# Altium schematic symbol library L1.SchLib: 83 symbols
Pins are listed as number, name and electrical type; pins without a type are passive.

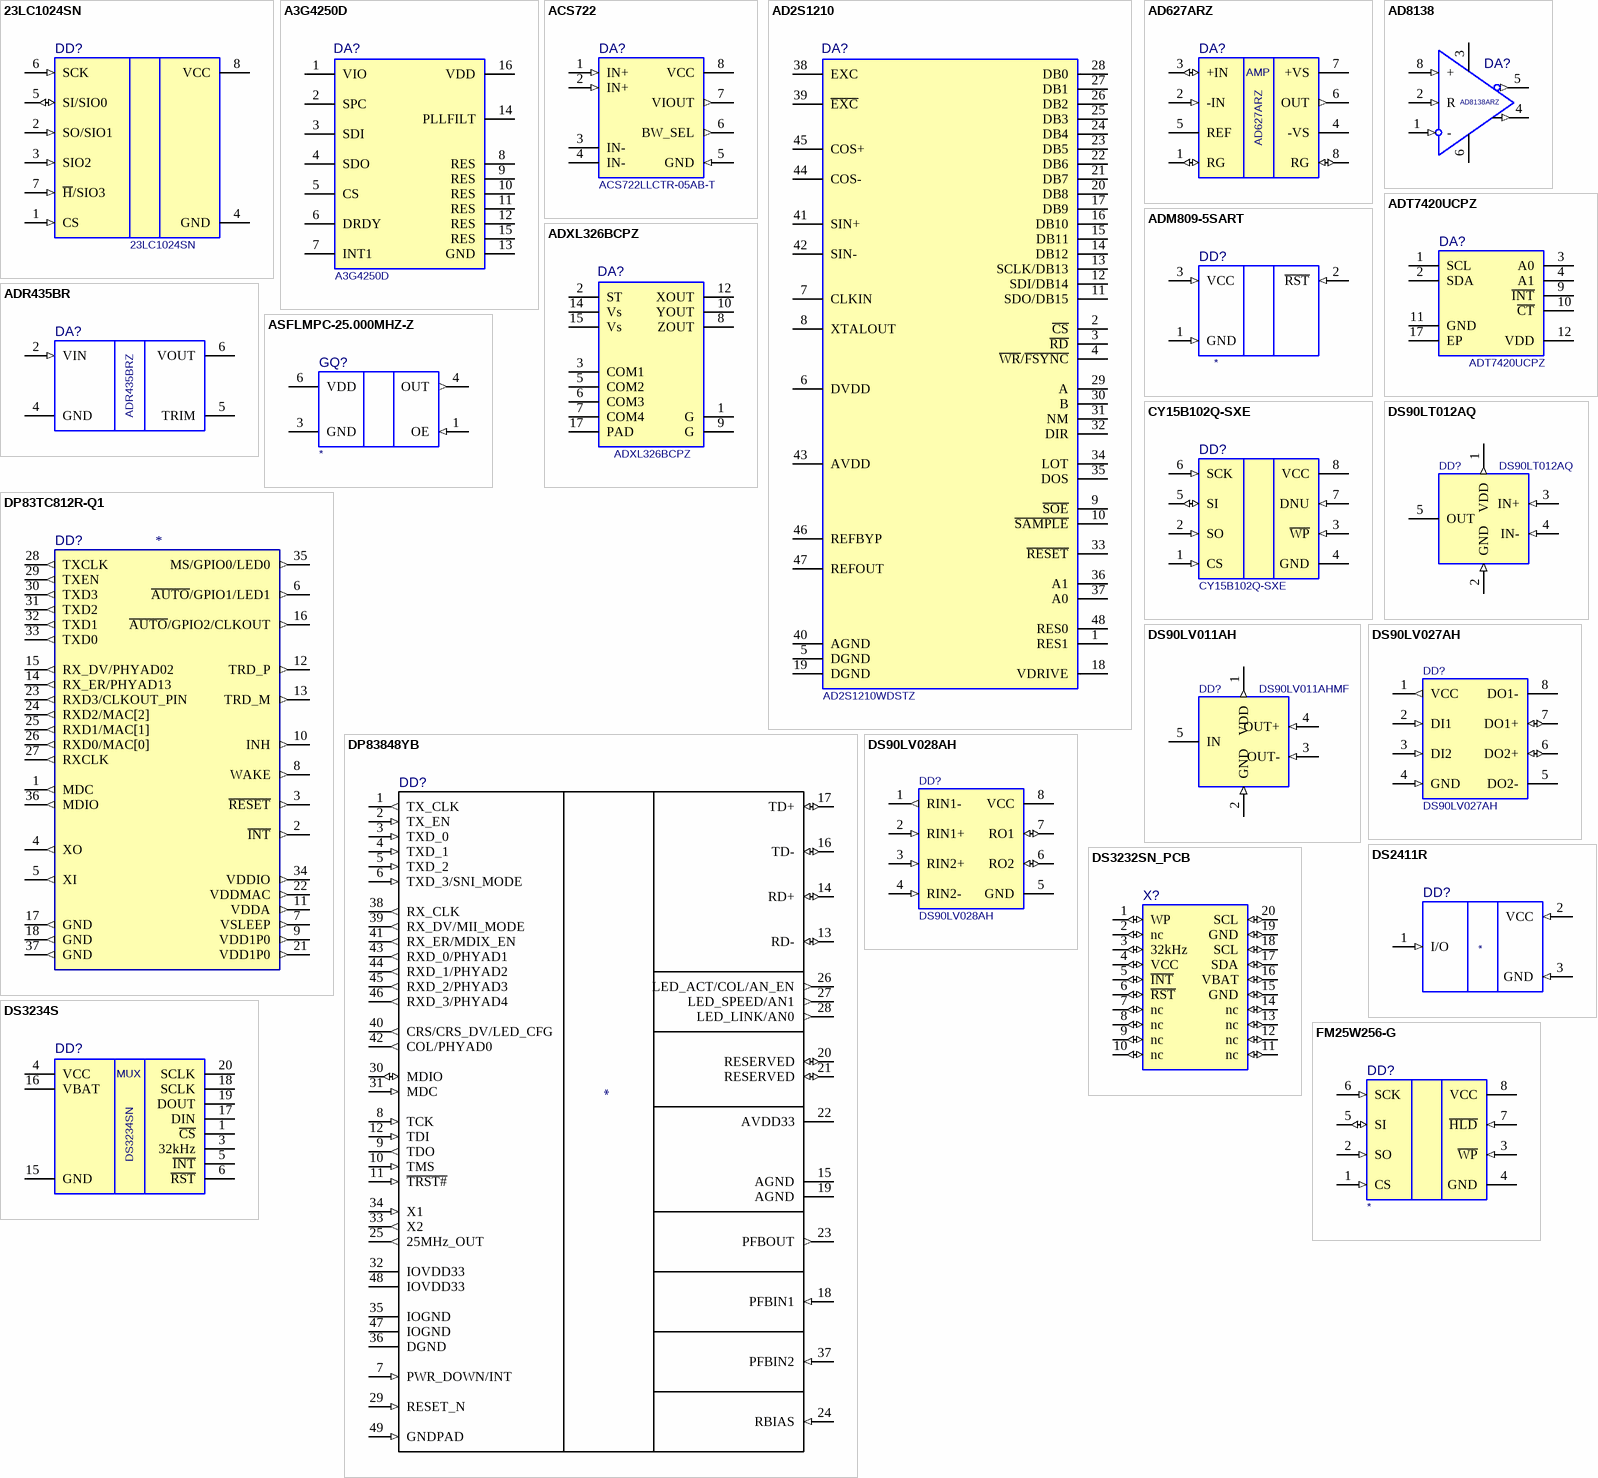
[diagram p0: symbols 23LC1024SN to FM25W256-G]

## 23LC1024SN
designator DD?
footprint SOIC8 JEDEC
signal-integrity model Model Name (Model Description)
pins: 1 CS (in), 2 SO/SIO1 (in), 3 SIO2 (in), 4 GND (power), 5 SI/SIO0 (io), 6 SCK (in), 7 ~{H}/SIO3 (in), 8 VCC (power)

## A3G4250D
designator DA?
3-axis digital output gyroscope; Part Field 1: *; Part Field 2: *
footprint LGA-16
pins: 1 VIO, 2 SPC, 3 SDI, 4 SDO, 5 CS, 6 DRDY, 7 INT1, 8 RES, 9 RES, 10 RES, 11 RES, 12 RES, 13 GND, 14 PLLFILT, 15 RES, 16 VDD

## ACS722
designator DA?, comment ACS722LLCTR-05AB-T
footprint SOIC8 JEDEC
pins: 1 IN+ (in), 2 IN+ (in), 3 IN- (power), 4 IN- (power), 5 GND (in), 6 BW_SEL (out), 7 VIOUT (out), 8 VCC (power)

## AD2S1210
designator DA?, comment AD2S1210WDSTZ
Variable Resolution, 10-Bit to 16-Bit resolver-to-digital  Converter with Reference Oscillator; Part Field 1: *; Part Field 2: *
footprint LQFP48_VBH48A
pins: 1 RES1, 2 ~{CS}, 3 ~{RD}, 4 ~{WR}/~{FSYNC}, 5 DGND, 6 DVDD, 7 CLKIN, 8 XTALOUT, 9 ~{SOE}, 10 ~{SAMPLE}, 11 SDO/DB15, 12 SDI/DB14, 13 SCLK/DB13, 14 DB12, 15 DB11, 16 DB10, 17 DB9, 18 VDRIVE, 19 DGND, 20 DB8, 21 DB7, 22 DB6, 23 DB5, 24 DB4, 25 DB3, 26 DB2, 27 DB1, 28 DB0, 29 A, 30 B, 31 NM, 32 DIR, 33 ~{RESET}, 34 LOT, 35 DOS, 36 A1, 37 A0, 38 EXC, 39 ~{EXC}, 40 AGND, 41 SIN+, 42 SIN-, 43 AVDD, 44 COS-, 45 COS+, 46 REFBYP, 47 REFOUT, 48 RES0

## AD627ARZ
designator DA?
footprint SOIC8 JEDEC
pins: 1 RG (io), 2 -IN (in), 3 +IN (io), 4 -VS, 5 REF (power), 6 OUT (out), 7 +VS (power), 8 RG (io)
text: AMP

## AD8138
designator DA?, comment AD8138ARZ
footprint SOIC8 JEDEC
pins: 1  - (in), 2 R (in), 3 V+ (power), 4 +OUT (out), 5 -OUT  (out), 6 V- (power), 8 + (in)

## ADM809-5SART
designator DD?
footprint SOT-23
pins: 1 GND (in), 2 ~{RST} (in), 3 VCC (in)

## ADR435BR
designator DA?, comment ADR435BRZ
footprint SOIC8 JEDEC
pins: 2 VIN (in), 4 GND (power), 5 TRIM (power), 6 VOUT (power)

## ADT7420UCPZ
designator DA?
±0.25°C Accurate, 16-Bit Digital I2C Temperature Sensor
footprint LFCSP16 (CP-16-17)
pins: 1 SCL (power), 2 SDA (power), 3 A0 (power), 4 A1 (power), 9 ~{INT} (power), 10 ~{CT} (power), 11 GND (power), 12 VDD (power), 17 EP (power)

## ADXL326BCPZ
designator DA?
Small, Low Power, 3-Axis ±16 g Accelerometer; Part Field 1: *; Part Field 2: *
footprint LFCSP16 (CP-16-5a)
pins: 1 G, 2 ST, 3 COM1, 5 COM2, 6 COM3, 7 COM4, 8 ZOUT, 9 G, 10 YOUT, 12 XOUT, 14 Vs, 15 Vs, 17 PAD

## ASFLMPC-25.000MHZ-Z
designator GQ?
footprint ASFLMP
pins: 1 OE (in), 3 GND (power), 4 OUT (out), 6 VDD (power)

## CY15B102Q-SXE
designator DD?
2-Mbit (256 K × 8) Serial (SPI) Automotive F-RAM
footprint SOIC8 EIAJ
signal-integrity model Model Name (Model Description)
pins: 1 CS (in), 2 SO (in), 3 ~{WP} (in), 4 GND (power), 5 SI (io), 6 SCK (in), 7 DNU (in), 8 VCC (power)

## DP83TC812R-Q1
designator DD?
TC-10 Compliant 100BASE-T1 Automotive Ethernet PHY
footprint VQFN-36
pins: 1 MDC (out), 2 ~{INT} (out), 3 ~{RESET} (out), 4 XO (out), 5 XI (out), 6 ~{AUTO}/GPIO1/LED1 (out), 7 VSLEEP (out), 8 WAKE (out), 9 VDD1P0 (out), 10 INH (out), 11 VDDA (out), 12 TRD_P (out), 13 TRD_M (out), 14 RX_ER/PHYAD13 (out), 15 RX_DV/PHYAD02 (out), 16 ~{AUTO}/GPIO2/CLKOUT (out), 17 GND (out), 18 GND (out), 21 VDD1P0 (out), 22 VDDMAC (out), 23 RXD3/CLKOUT_PIN (out), 24 RXD2/MAC[2] (out), 25 RXD1/MAC[1] (out), 26 RXD0/MAC[0] (out), 27 RXCLK (out), 28 TXCLK (out), 29 TXEN (out), 30 TXD3 (out), 31 TXD2 (out), 32 TXD1 (out), 33 TXD0 (out), 34 VDDIO (out), 35 MS/GPIO0/LED0 (out), 36 MDIO (out), 37 GND (out)

## DP83848YB
designator DD?
footprint LQFP48_VXH48A
signal-integrity model DP83848YB (DP83848YB IBIS)
pins: 1 TX_CLK (out), 2 TX_EN (in), 3 TXD_0 (in), 4 TXD_1 (in), 5 TXD_2 (in), 6 TXD_3/SNI_MODE (in), 7 PWR_DOWN/INT (in), 8 TCK (in), 9 TDO (out), 10 TMS (in), 11 ~{TRST#} (in), 12 TDI (in), 13 RD- (io), 14 RD+ (io), 15 AGND (power), 16 TD- (io), 17 TD+ (io), 18 PFBIN1 (in), 19 AGND (power), 20 RESERVED (io), 21 RESERVED (io), 22 AVDD33 (power), 23 PFBOUT (out), 24 RBIAS (in), 25 25MHz_OUT (out), 26 LED_ACT/COL/AN_EN (out), 27 LED_SPEED/AN1 (out), 28 LED_LINK/AN0 (out), 29 RESET_N (in), 30 MDIO (io), 31 MDC (in), 32 IOVDD33 (power), 33 X2 (out), 34 X1 (in), 35 IOGND (power), 36 DGND (power), 37 PFBIN2 (in), 38 RX_CLK (out), 39 RX_DV/MII_MODE (out), 40 CRS/CRS_DV/LED_CFG (out), 41 RX_ER/MDIX_EN (out), 42 COL/PHYAD0 (out), 43 RXD_0/PHYAD1 (out), 44 RXD_1/PHYAD2 (out), 45 RXD_2/PHYAD3 (out), 46 RXD_3/PHYAD4 (out), 47 IOGND (power), 48 IOVDD33 (power), 49 GNDPAD (in)

## DS90LT012AQ
designator DD?
DS90LT012AQ Automotive LVDS Differential Line Receiver; Value: *
footprint SOT23-5
pins: 1 VDD (out), 2 GND (in), 3 IN+ (in), 4 IN- (in), 5 OUT (power)

## DS90LV011AH
designator DD?, comment DS90LV011AHMF
DS90LV011AH High Temperature 3-V LVDS Differential Driver; Value: *
footprint SOT23-5
pins: 1 VDD (out), 2 GND (in), 3 OUT- (in), 4 OUT+ (in), 5 IN (power)

## DS90LV027AH
designator DD?
DS90LV027AH high temperature LVDS dual differential driver; Value: *
footprint SOIC8 JEDEC
pins: 1 VCC (out), 2 DI1 (in), 3 DI2 (in), 4 GND (in), 5 DO2- (power), 6 DO2+ (io), 7 DO1+ (io), 8 DO1- (power)

## DS90LV028AH
designator DD?
DS90LV028AH high temperature3-V LVDS dual differentialline receiver; Value: *
footprint SOIC8 JEDEC
pins: 1 RIN1- (out), 2 RIN1+ (in), 3 RIN2+ (in), 4 RIN2- (in), 5 GND (power), 6 RO2 (io), 7 RO1 (io), 8 VCC (power)

## DS2411R
designator DD?
Silicon Serial Number with VCC Input
footprint SOT-23
pins: 1 I/O (in), 2 VCC (in), 3 GND (in)

## DS3232SN_PCB
designator X?
footprint DS3232SN_PCB
pins: 1 WP (io), 2 nc (io), 3 32kHz (io), 4 VCC (io), 5 ~{INT} (io), 6 ~{RST} (io), 7 nc (io), 8 nc (io), 9 nc (io), 10 nc (io), 11 nc (io), 12 nc (io), 13 nc (io), 14 nc (io), 15 GND (io), 16 VBAT (io), 17 SDA (io), 18 SCL (io), 19 GND (io), 20 SCL (io)

## DS3234S
designator DD?, comment DS3234SN
Extremely Accurate SPI Bus RTC with Integrated Crystal and SRAM; Part Field 1: *; Part Field 2: *
footprint SOIC-20 (JEDEC MS-013-AC)
pins: 1 ~{CS}, 3 32kHz, 4 VCC, 5 ~{INT}, 6 ~{RST}, 15 GND, 16 VBAT, 17 DIN, 18 SCLK, 19 DOUT, 20 SCLK
text: MUX

## FM25W256-G
designator DD?
256-Kbit (32K × 8) Serial (SPI) F-RAM
footprint SOIC8 JEDEC
signal-integrity model Model Name (Model Description)
pins: 1 CS (in), 2 SO (in), 3 ~{WP} (in), 4 GND (power), 5 SI (io), 6 SCK (in), 7 ~{HLD} (in), 8 VCC (power)

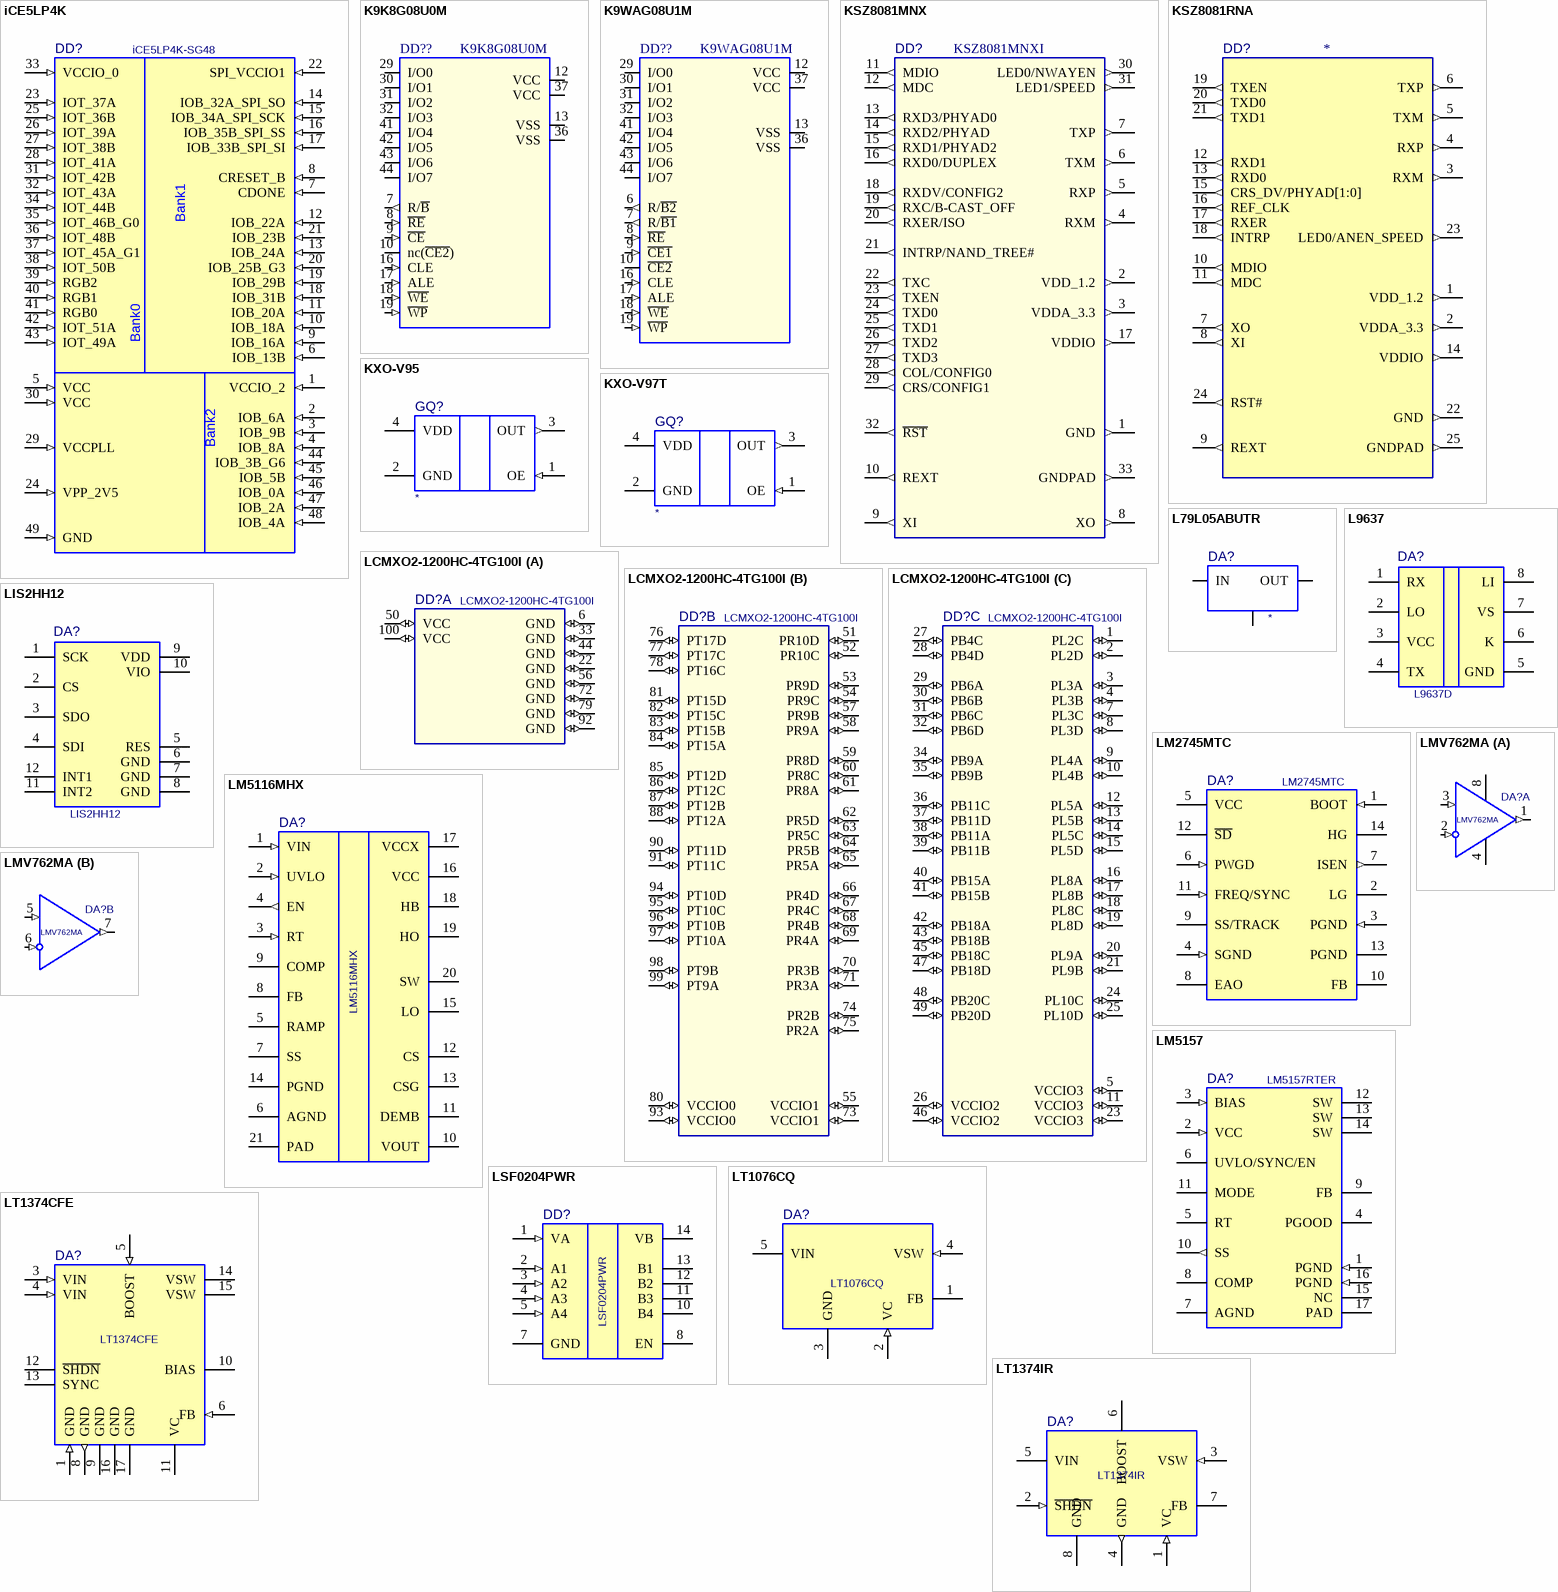
[diagram p1: symbols iCE5LP4K to LT1374IR]

## iCE5LP4K
designator DD?, comment iCE5LP4K-SG48
FPGA
footprint QFN48_5.8 (QFN, 64-Leads, Body 9x9mm, Pitch 0.5mm, Thermal Pad 7.3x7.3mm, IPC Low Density)
pins: 1 VCCIO_2 (in), 2 IOB_6A (in), 3 IOB_9B (in), 4 IOB_8A (in), 5 VCC (in), 6 IOB_13B (in), 7 CDONE (in), 8 CRESET_B (in), 9 IOB_16A (in), 10 IOB_18A (in), 11 IOB_20A (in), 12 IOB_22A (in), 13 IOB_24A (in), 14 IOB_32A_SPI_SO (in), 15 IOB_34A_SPI_SCK (in), 16 IOB_35B_SPI_SS (in), 17 IOB_33B_SPI_SI (in), 18 IOB_31B (in), 19 IOB_29B (in), 20 IOB_25B_G3 (in), 21 IOB_23B (in), 22 SPI_VCCIO1 (in), 23 IOT_37A (in), 24 VPP_2V5 (in), 25 IOT_36B (in), 26 IOT_39A (in), 27 IOT_38B (in), 28 IOT_41A (in), 29 VCCPLL (in), 30 VCC (in), 31 IOT_42B (in), 32 IOT_43A (in), 33 VCCIO_0 (in), 34 IOT_44B (in), 35 IOT_46B_G0 (in), 36 IOT_48B (in), 37 IOT_45A_G1 (in), 38 IOT_50B (in), 39 RGB2 (in), 40 RGB1 (in), 41 RGB0 (in), 42 IOT_51A (in), 43 IOT_49A (in), 44 IOB_3B_G6 (in), 45 IOB_5B (in), 46 IOB_0A (in), 47 IOB_2A (in), 48 IOB_4A (in), 49 GND (in)
text: Bank1; Bank0; Bank2

## K9K8G08U0M
designator DD??
1G x 8 Bit / 2G x 8 Bit NAND Flash Memory; Part Field 1: *; Part Field 2: *
footprint TSSO12X20-G48/P.5
pins: 1 nc (power) hidden to GND, 2 nc (power) hidden to GND, 3 nc (power) hidden to GND, 4 nc (power) hidden to GND, 5 nc (power) hidden to GND, 6 nc (power) hidden to GND, 7 R/~{B} (out), 8 ~{RE} (in), 9 ~{CE} (in), 10 nc(~{CE2}), 11 nc (power) hidden to GND, 12 VCC (power), 13 VSS (power), 14 nc (power) hidden to GND, 15 nc (power) hidden to GND, 16 CLE (in), 17 ALE (in), 18 ~{WE} (in), 19 ~{WP} (in), 20 nc (power) hidden to GND, 21 nc (power) hidden to GND, 22 nc (power) hidden to GND, 23 nc (power) hidden to GND, 24 nc (power) hidden to GND, 25 nc (power) hidden to GND, 26 nc (power) hidden to GND, 27 nc (power) hidden to GND, 28 nc (power) hidden to GND, 29 I/O0 (io), 30 I/O1 (io), 31 I/O2 (io), 32 I/O3 (io), 33 nc (power) hidden to GND, 34 nc (power) hidden to GND, 35 nc (power) hidden to GND, 36 VSS (power), 37 VCC (power), 38 nc (power) hidden to GND, 39 nc (power) hidden to GND, 40 nc (power) hidden to GND, 41 I/O4 (io), 42 I/O5 (io), 43 I/O6 (io), 44 I/O7 (io), 45 nc (power) hidden to GND, 46 nc (power) hidden to GND, 47 nc (power) hidden to GND, 48 nc (power) hidden to GND

## K9WAG08U1M
designator DD??
1G x 8 Bit / 2G x 8 Bit NAND Flash Memory; Part Field 1: *; Part Field 2: *
footprint TSSO12X20-G48/P.5
pins: 1 nc (power) hidden to GND, 2 nc (power) hidden to GND, 3 nc (power) hidden to GND, 4 nc (power) hidden to GND, 5 nc (power) hidden to GND, 6 R/~{B2} (out), 7 R/~{B1} (out), 8 ~{RE} (in), 9 ~{CE1} (in), 10 ~{CE2}, 11 nc (power) hidden to GND, 12 VCC (power), 13 VSS (power), 14 nc (power) hidden to GND, 15 nc (power) hidden to GND, 16 CLE (in), 17 ALE (in), 18 ~{WE} (in), 19 ~{WP} (in), 20 nc (power) hidden to GND, 21 nc (power) hidden to GND, 22 nc (power) hidden to GND, 23 nc (power) hidden to GND, 24 nc (power) hidden to GND, 25 nc (power) hidden to GND, 26 nc (power) hidden to GND, 27 nc (power) hidden to GND, 28 nc (power) hidden to GND, 29 I/O0 (io), 30 I/O1 (io), 31 I/O2 (io), 32 I/O3 (io), 33 nc (power) hidden to GND, 34 nc (power) hidden to GND, 35 nc (power) hidden to GND, 36 VSS (power), 37 VCC (power), 38 nc (power) hidden to GND, 39 nc (power) hidden to GND, 40 nc (power) hidden to GND, 41 I/O4 (io), 42 I/O5 (io), 43 I/O6 (io), 44 I/O7 (io), 45 nc (power) hidden to GND, 46 nc (power) hidden to GND, 47 nc (power) hidden to GND, 48 nc (power) hidden to GND

## KSZ8081MNX
designator DD?, comment KSZ8081MNXI
10BASE-T/100BASE-TX Physical Layer Transceiver
footprint HVQFN33
pins: 1 GND (out), 2 VDD_1.2 (out), 3 VDDA_3.3 (out), 4 RXM (out), 5 RXP (out), 6 TXM (out), 7 TXP (out), 8 XO (out), 9 XI (out), 10 REXT (out), 11 MDIO (out), 12 MDC (out), 13 RXD3/PHYAD0 (out), 14 RXD2/PHYAD (out), 15 RXD1/PHYAD2 (out), 16 RXD0/DUPLEX (out), 17 VDDIO (out), 18 RXDV/CONFIG2 (out), 19 RXC/B-CAST_OFF (out), 20 RXER/ISO (out), 21 INTRP/NAND_TREE# (out), 22 TXC (out), 23 TXEN (out), 24 TXD0 (out), 25 TXD1 (out), 26 TXD2 (out), 27 TXD3 (out), 28 COL/CONFIG0 (out), 29 CRS/CONFIG1 (out), 30 LED0/NWAYEN (out), 31 LED1/SPEED (out), 32 ~{RST} (out), 33 GNDPAD (out)

## KSZ8081RNA
designator DD?
10BASE-T/100BASE-TX PHY with RMII Support
footprint QFN-24
pins: 1 VDD_1.2 (out), 2 VDDA_3.3 (out), 3 RXM (out), 4 RXP (out), 5 TXM (out), 6 TXP (out), 7 XO (out), 8 XI (out), 9 REXT (out), 10 MDIO (out), 11 MDC (out), 12 RXD1 (out), 13 RXD0 (out), 14 VDDIO (out), 15 CRS_DV/PHYAD[1:0] (out), 16 REF_CLK (out), 17 RXER (out), 18 INTRP (out), 19 TXEN (out), 20 TXD0 (out), 21 TXD1 (out), 22 GND (out), 23 LED0/ANEN_SPEED (out), 24 RST# (out), 25 GNDPAD (out)

## KXO-V95
designator GQ?
footprint KXO_2.5_2
pins: 1 OE (in), 2 GND (power), 3 OUT (out), 4 VDD (power)

## KXO-V97T
designator GQ?
footprint KXO-97
pins: 1 OE (in), 2 GND (power), 3 OUT (out), 4 VDD (power)

## L79L05ABUTR
designator DA?
footprint SOT-89
pins: 1 G, 2 IN, 3 OUT

## L9637
designator DA?, comment L9637D
Monolithic bus driver with ISO 9141 interface; Part Field 1: *; Part Field 2: *
footprint SOIC8 JEDEC
pins: 1 RX, 2 LO, 3 VCC, 4 TX, 5 GND, 6 K, 7 VS, 8 LI

## LCMXO2-1200HC-4TG100I
designator DD?
footprint LQFP100_MS-026
part A pins: 6 GND (io), 22 GND (io), 33 GND (io), 44 GND (io), 50 VCC (io), 56 GND (io), 72 GND (io), 79 GND (io), 92 GND (io), 100 VCC (io)
part B pins: 51 PR10D (io), 52 PR10C (io), 53 PR9D (io), 54 PR9C (io), 55 VCCIO1 (io), 57 PR9B (io), 58 PR9A (io), 59 PR8D (io), 60 PR8C (io), 61 PR8A (io), 62 PR5D (io), 63 PR5C (io), 64 PR5B (io), 65 PR5A (io), 66 PR4D (io), 67 PR4C (io), 68 PR4B (io), 69 PR4A (io), 70 PR3B (io), 71 PR3A (io), 73 VCCIO1 (io), 74 PR2B (io), 75 PR2A (io), 76 PT17D (io), 77 PT17C (io), 78 PT16C (io), 80 VCCIO0 (io), 81 PT15D (io), 82 PT15C (io), 83 PT15B (io), 84 PT15A (io), 85 PT12D (io), 86 PT12C (io), 87 PT12B (io), 88 PT12A (io), 90 PT11D (io), 91 PT11C (io), 93 VCCIO0 (io), 94 PT10D (io), 95 PT10C (io), 96 PT10B (io), 97 PT10A (io), 98 PT9B (io), 99 PT9A (io)
part C pins: 1 PL2C (io), 2 PL2D (io), 3 PL3A (io), 4 PL3B (io), 5 VCCIO3 (io), 7 PL3C (io), 8 PL3D (io), 9 PL4A (io), 10 PL4B (io), 11 VCCIO3 (io), 12 PL5A (io), 13 PL5B (io), 14 PL5C (io), 15 PL5D (io), 16 PL8A (io), 17 PL8B (io), 18 PL8C (io), 19 PL8D (io), 20 PL9A (io), 21 PL9B (io), 23 VCCIO3 (io), 24 PL10C (io), 25 PL10D (io), 26 VCCIO2 (io), 27 PB4C (io), 28 PB4D (io), 29 PB6A (io), 30 PB6B (io), 31 PB6C (io), 32 PB6D (io), 34 PB9A (io), 35 PB9B (io), 36 PB11C (io), 37 PB11D (io), 38 PB11A (io), 39 PB11B (io), 40 PB15A (io), 41 PB15B (io), 42 PB18A (io), 43 PB18B (io), 45 PB18C (io), 46 VCCIO2 (io), 47 PB18D (io), 48 PB20C (io), 49 PB20D (io)

## LIS2HH12
designator DA?
ultra-low-power high-performance 3-axis "pico" accelerometer; Part Field 1: *; Part Field 2: *
footprint LGA-12
pins: 1 SCK, 2 CS, 3 SDO, 4 SDI, 5 RES, 6 GND, 7 GND, 8 GND, 9 VDD, 10 VIO, 11 INT2, 12 INT1

## LM2745MTC
designator DA?
Synchronous Buck Controller with Pre-Bias Startup, and Optional Clock Synchronization
footprint TSSOP14 (JEDEC MO-153)
pins: 1 BOOT (in), 2 LG (power), 3 PGND (in), 4 SGND (in), 5 VCC (power), 6 PWGD (in), 7 ISEN (out), 8 EAO (power), 9 SS/TRACK (power), 10 FB (power), 11 FREQ/SYNC (in), 12 ~{SD} (power), 13 PGND (power), 14 HG (power)

## LM5116MHX
designator DA?
6-100V Wide Vin, Current Mode Synchronous Buck Controller
footprint HTSSOP20 (MXA20A)
pins: 1 VIN (in), 2 UVLO (in), 3 RT (in), 4 EN (out), 5 RAMP (power), 6 AGND (power), 7 SS (power), 8 FB (power), 9 COMP (power), 10 VOUT (power), 11 DEMB (power), 12 CS (power), 13 CSG (power), 14 PGND (power), 15 LO (power), 16 VCC (power), 17 VCCX (power), 18 HB (power), 19 HO (power), 20 SW (power), 21 PAD (power)

## LM5157
designator DA?, comment LM5157RTER
2.2-MHz Wide VIN 50-V Boost/SEPIC/Flyback Converter with Dual Random Spread Spectrum, Thermal shutdown 175°C
footprint WQFN-16
pins: 1 PGND (in), 2 VCC (in), 3 BIAS (in), 4 PGOOD (power), 5 RT (power), 6 UVLO/SYNC/EN (power), 7 AGND (power), 8 COMP (power), 9 FB (power), 10 SS (out), 11 MODE (power), 12 SW (power), 13 SW (power), 14 SW (power), 15 NC (power), 16 PGND (in), 17 PAD (power)

## LMV762MA
designator DA?
footprint SOIC8 JEDEC
part A pins: 1 OUT (out), 2 - (in), 3 + (in), 4 V- (power), 8 V+ (power)
part B pins: 5 + (in), 6 - (in), 7 OUT (out)

## LSF0204PWR
designator DD?
4-bit bidirectional multi-voltage level translator; open-drain; push-pull
footprint TSSOP14 (JEDEC MO-153)
pins: 1 VA (in), 2 A1 (in), 3 A2 (in), 4 A3 (in), 5 A4 (in), 7 GND (power), 8 EN (power), 10 B4 (power), 11 B3 (power), 12 B2 (power), 13 B1 (power), 14 VB (power)

## LT1076CQ
designator DA?
2A, 8-45-V Input, 100kHz Step-Down Switching Regulator
footprint D2PAK-5
pins: 1 FB (power), 2 VC (in), 3 GND (power), 4 VSW (in), 5 VIN (power)

## LT1374CFE
designator DA?
4.5-A, 25-V Input, 500kHz Step-Down Switching Regulator
footprint TSSOP16 POWERPAD
pins: 1 GND (in), 3 VIN (in), 4 VIN (in), 5 BOOST (in), 6 FB (in), 8 GND (out), 9 GND (power), 10 BIAS (power), 11 VC (power), 12 ~{SHDN} (power), 13 SYNC (power), 14 VSW (power), 15 VSW (power), 16 GND (power), 17 GND (power)

## LT1374IR
designator DA?
4.5-A, 25-V Input, 500kHz Step-Down Switching Regulator
footprint D2PAK-7
pins: 1 VC (in), 2 ~{SHDN} (in), 3 VSW (in), 4 GND (out), 5 VIN (power), 6 BOOST (power), 7 FB (power), 8 GND (power)

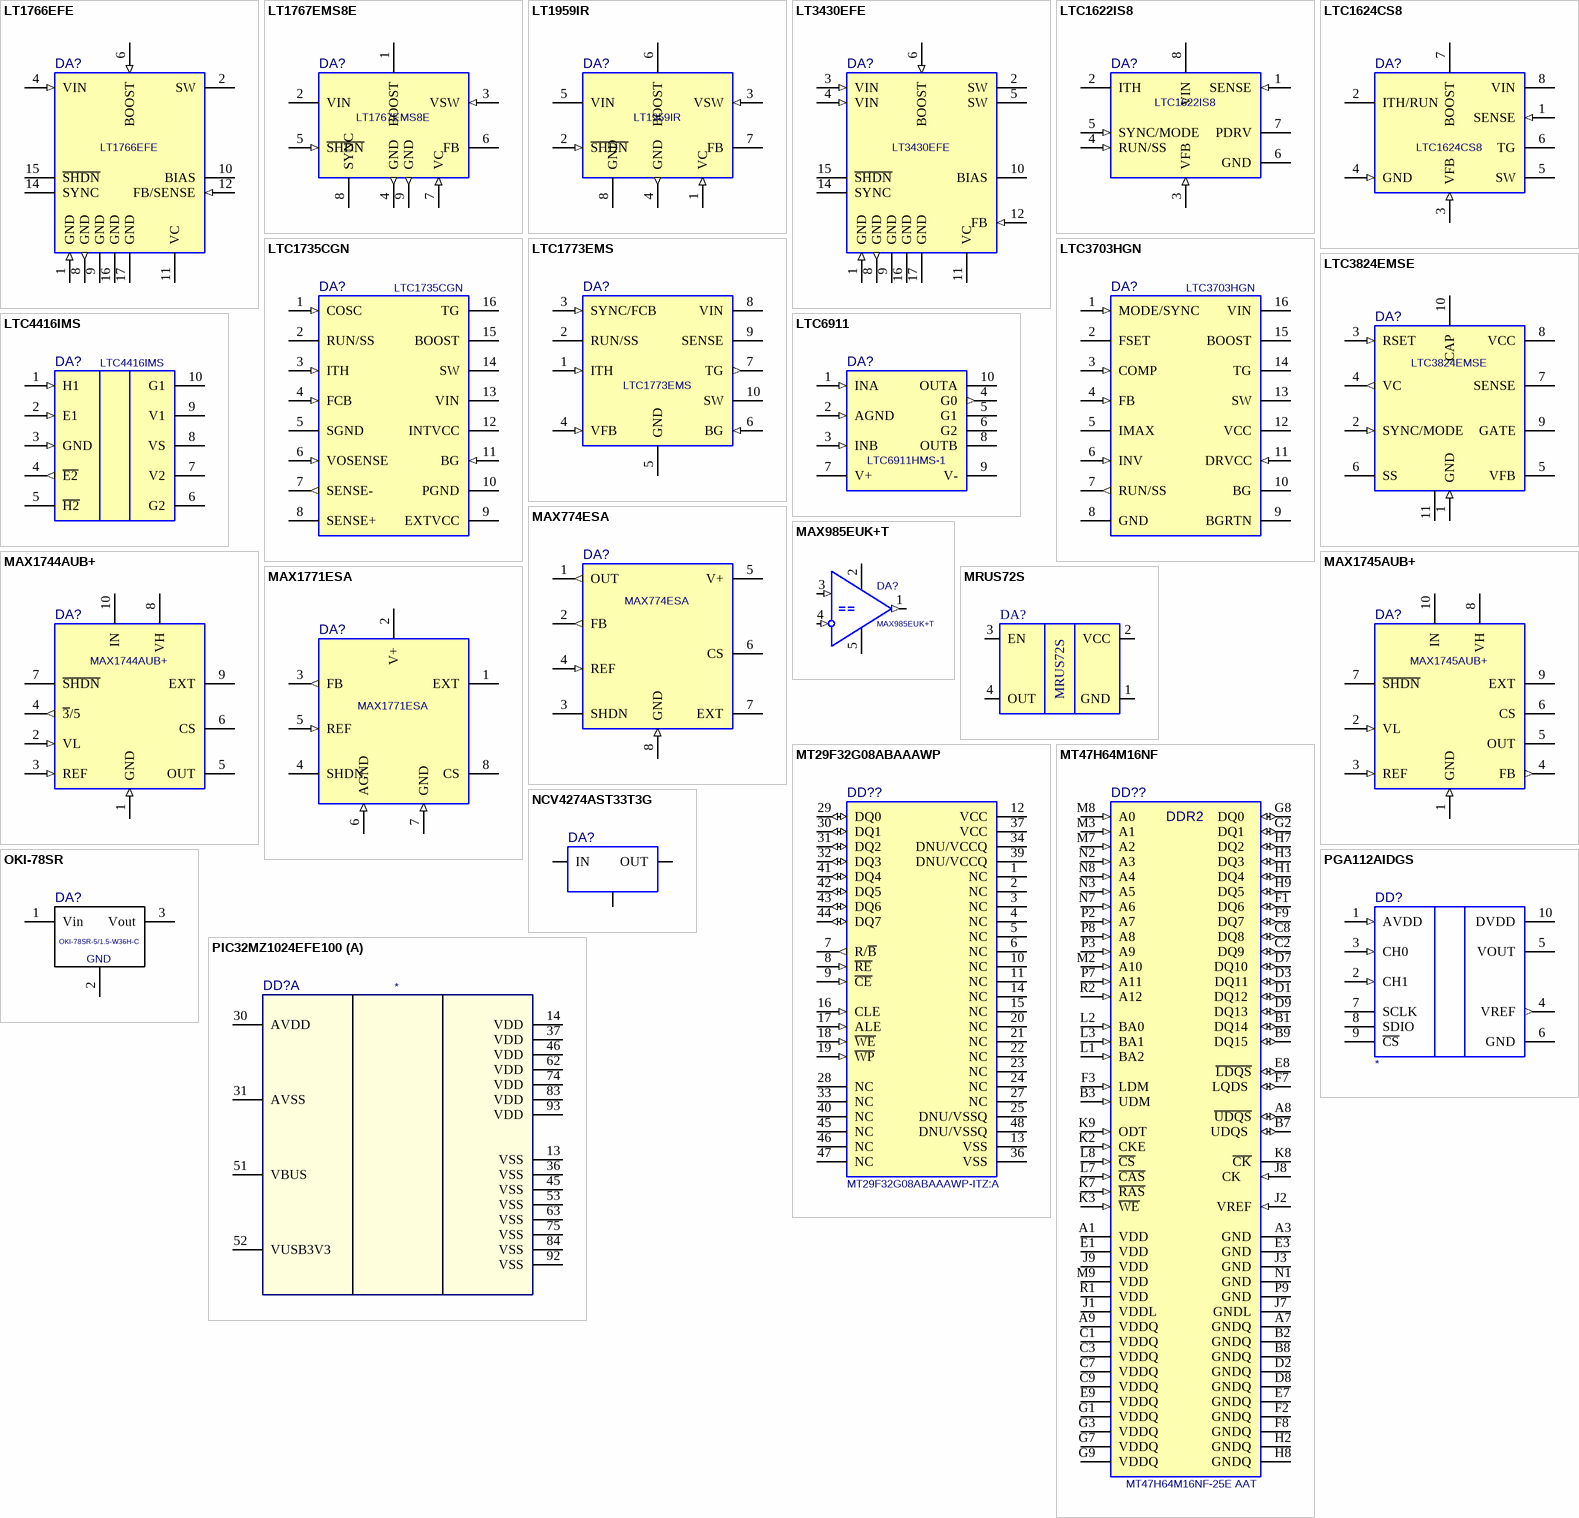
[diagram p2: symbols LT1766EFE to PIC32MZ1024EFE100]

## LT1766EFE
designator DA?
5.5V to 60V 1.5A, 200kHz Step-Down Switching Regulator
footprint TSSOP16 POWERPAD
pins: 1 GND (in), 2 SW (power), 4 VIN (in), 6 BOOST (in), 8 GND (out), 9 GND (power), 10 BIAS (power), 11 VC (power), 12 FB/SENSE (in), 14 SYNC (power), 15 ~{SHDN} (power), 16 GND (power), 17 GND (power)

## LT1767EMS8E
designator DA?
3 to 25V,Monolithic 1.5A, 1.25MHz Step-Down Switching Regulators
footprint MSOP8 POWERPAD
pins: 1 BOOST (power), 2 VIN (power), 3 VSW (in), 4 GND (out), 5 ~{SHDN} (in), 6 FB (power), 7 VC (in), 8 SYNC (power), 9 GND (out)

## LT1959IR
designator DA?
4.5-A, 16-V Input, 500kHz Step-Down Switching Regulator
footprint D2PAK-7
pins: 1 VC (in), 2 ~{SHDN} (in), 3 VSW (in), 4 GND (out), 5 VIN (power), 6 BOOST (power), 7 FB (power), 8 GND (power)

## LT3430EFE
designator DA?
5.5 to 60V, High Voltage, 3A, 200kHz/100kHz Step-Down Switching Regulators
footprint TSSOP16 POWERPAD
pins: 1 GND (in), 2 SW (power), 3 VIN (in), 4 VIN (in), 5 SW (power), 6 BOOST (in), 8 GND (out), 9 GND (power), 10 BIAS (power), 11 VC (power), 12 FB (in), 14 SYNC (power), 15 ~{SHDN} (power), 16 GND (power), 17 GND (power)

## LTC1622IS8
designator DA?
2 to 10V, 550kHz, Current Mode Step-Down DC/DC Controller
footprint SOIC8 JEDEC
pins: 1 SENSE (in), 2 ITH (power), 3 VFB (in), 4 RUN/SS (in), 5 SYNC/MODE (in), 6 GND (power), 7 PDRV (power), 8 VIN (power)

## LTC1624CS8
designator DA?
3.5 to 36V, 200kHz, High Efficiency SO-8 N-Channel Switching / Regulator Controller
footprint SOIC8 JEDEC
pins: 1 SENSE (in), 2 ITH/RUN (power), 3 VFB (in), 4 GND (in), 5 SW (power), 6 TG (power), 7 BOOST (power), 8 VIN (power)

## LTC1735CGN
designator DA?
VIN 4 to 36V, VOUT 0.8 to 6V, 100-500kHz, High Efficiency Synchronous Step-Down Switching Regulator
footprint SSOP16 (JEDEC MO-137)
pins: 1 COSC (in), 2 RUN/SS (power), 3 ITH (in), 4 FCB (in), 5 SGND (power), 6 VOSENSE (in), 7 SENSE- (out), 8 SENSE+ (power), 9 EXTVCC (power), 10 PGND (power), 11 BG (in), 12 INTVCC (power), 13 VIN (power), 14 SW (power), 15 BOOST (power), 16 TG (power)

## LTC1773EMS
designator DA?
VIN 2.65 to 8.5V, VOUT 0.8 to VIN, 500kHz, Synchronous Step-Down DC/DC Controller
footprint MSOP10 (MO-187-BA)
pins: 1 ITH (in), 2 RUN/SS (power), 3 SYNC/FCB (in), 4 VFB (in), 5 GND (power), 6 BG (in), 7 TG (out), 8 VIN (power), 9 SENSE (power), 10 SW (power)

## LTC3703HGN
designator DA?
VCC 9.3 to 15V, 100-600kHz, 100V Synchronous / Switching Regulator Controller
footprint SSOP16 (JEDEC MO-137)
pins: 1 MODE/SYNC (in), 2 FSET (power), 3 COMP (in), 4 FB (in), 5 IMAX (power), 6 INV (in), 7 RUN/SS (out), 8 GND (power), 9 BGRTN (power), 10 BG (power), 11 DRVCC (in), 12 VCC (power), 13 SW (power), 14 TG (power), 15 BOOST (power), 16 VIN (power)

## LTC3824EMSE
designator DA?
VIN 4 to 60V, VOUT 0.8 to 6V, 200-600kHz, High Voltage Step-Down Controller With 40µA Quiescent Current
footprint MSOP10 POWERPAD (MO-187-BA)
pins: 1 GND (in), 2 SYNC/MODE (in), 3 RSET (in), 4 VC (out), 5 VFB (power), 6 SS (power), 7 SENSE (power), 8 VCC (power), 9 GATE (power), 10 CAP (power), 11 GND (power)

## LTC4416IMS
designator DA?
36V, Low Loss Dual PowerPath Controllers for Large PFETs
footprint MSOP10 (MO-187-BA)
pins: 1 H1 (in), 2 E1 (in), 3 GND (in), 4 ~{E2} (out), 5 ~{H2} (power), 6 G2 (power), 7 V2 (power), 8 VS (power), 9 V1 (power), 10 G1 (power)

## LTC6911
designator DA?, comment LTC6911HMS-1
Dual Matched Amplifiers with Digitally Programmable Gain in MSOP
footprint MSOP10 (MO-187-BA)
pins: 1 INA (in), 2 AGND (in), 3 INB (in), 4 G0 (out), 5 G1 (power), 6 G2 (power), 7 V+ (power), 8 OUTB (power), 9 V- (power), 10 OUTA (power)

## MAX774ESA
designator DA?
VIN 3 to 16.5V, VOUT -5V or Adjustable, max 300kHz, High-Efficiency, Low IQ Inverting DC-to-DC Controller
footprint SOIC8 JEDEC
pins: 1 OUT (out), 2 FB (out), 3 SHDN (power), 4 REF (in), 5 V+ (power), 6 CS (power), 7 EXT (power), 8 GND (in)

## MAX985EUK+T
designator DA?
Micropower, Low-Voltage, Rail-to-Rail I/O Comparators
footprint SOT23-5
pins: 1 OUT (out), 2 V+ (power), 3 + (in), 4 - (in), 5 V- (power)

## MAX1744AUB+
designator DA?
VIN 5.5 to 36V, VOUT 0.8 to 6V, max 330kHz, High Voltage Step-Down Controller With 90µA Quiescent Current
footprint MSOP10 (MO-187-BA)
pins: 1 GND (in), 2 VL (in), 3 REF (in), 4 ~{3}/5 (out), 5 OUT (power), 6 CS (power), 7 ~{SHDN} (power), 8 VH (power), 9 EXT (power), 10 IN (power)

## MAX1745AUB+
designator DA?
VIN 5.5 to 36V, VOUT 0.8 to 6V, max 330kHz, High Voltage Step-Down Controller With 90µA Quiescent Current
footprint MSOP10 (MO-187-BA)
pins: 1 GND (in), 2 VL (in), 3 REF (in), 4 FB (out), 5 OUT (power), 6 CS (power), 7 ~{SHDN} (power), 8 VH (power), 9 EXT (power), 10 IN (power)

## MAX1771ESA
designator DA?
VIN 3 to 16.5V, VOUT 3 to 16.5V, max 300kHz, Step-Up Controller With 110µA Supply Current
footprint SOIC8 JEDEC
pins: 1 EXT (power), 2 V+ (power), 3 FB (out), 4 SHDN (power), 5 REF (in), 6 AGND (in), 7 GND (in), 8 CS (power)

## MRUS72S
designator DA?
Hall sensor
footprint MINI FLP-4
pins: 1 GND, 2 VCC, 3 EN, 4 OUT

## MT29F32G08ABAAAWP
designator DD??, comment MT29F32G08ABAAAWP-ITZ:A
NAND Flash Memory 32Gb Asynchronous; Part Field 1: *; Part Field 2: *
footprint TSSO12X20-G48/P.5
pins: 1 NC, 2 NC, 3 NC, 4 NC, 5 NC, 6 NC, 7 R/~{B} (out), 8 ~{RE} (in), 9 ~{CE} (in), 10 NC, 11 NC, 12 VCC (power), 13 VSS (power), 14 NC (power), 15 NC (power), 16 CLE (in), 17 ALE (in), 18 ~{WE} (in), 19 ~{WP} (in), 20 NC, 21 NC, 22 NC, 23 NC, 24 NC, 25 DNU/VSSQ, 27 NC, 28 NC, 29 DQ0 (io), 30 DQ1 (io), 31 DQ2 (io), 32 DQ3 (io), 33 NC, 34 DNU/VCCQ, 36 VSS (power), 37 VCC (power), 39 DNU/VCCQ, 40 NC, 41 DQ4 (io), 42 DQ5 (io), 43 DQ6 (io), 44 DQ7 (io), 45 NC, 46 NC, 47 NC, 48 DNU/VSSQ

## MT47H64M16NF
designator DD??, comment MT47H64M16NF-25E AAT
Automotive DDR2 SDRAM  8 Meg x 16 x 8 banks; Part Field 1: *; Part Field 2: *
footprint FBGA84
pins: A1 VDD (power), A3 GND (power), A7 GNDQ (power), A8 ~{UDQS} (io), A9 VDDQ (power), B1 DQ14  (io), B2 GNDQ (power), B3 UDM   (in), B7 UDQS  (io), B8 GNDQ (power), B9 DQ15  (io), C1 VDDQ (power), C2 DQ9   (io), C3 VDDQ (power), C7 VDDQ (power), C8 DQ8   (io), C9 VDDQ (power), D1 DQ12  (io), D2 GNDQ (power), D3 DQ11  (io), D7 DQ10  (io), D8 GNDQ (power), D9 DQ13  (io), E1 VDD (power), E3 GND (power), E7 GNDQ (power), E8 ~{LDQS} (io), E9 VDDQ (power), F1 DQ6   (io), F2 GNDQ (power), F3 LDM   (in), F7 LQDS  (io), F8 GNDQ (power), F9 DQ7   (io), G1 VDDQ (power), G2 DQ1   (io), G3 VDDQ (power), G7 VDDQ (power), G8 DQ0   (io), G9 VDDQ (power), H1 DQ4   (io), H2 GNDQ (power), H3 DQ3   (io), H7 DQ2   (io), H8 GNDQ (power), H9 DQ5   (io), J1 VDDL (power), J2 VREF (in), J3 GND (power), J7 GNDL (power), J8 CK    (in), J9 VDD (power), K2 CKE   (in), K3 ~{WE} (in), K7 ~{RAS} (in), K8 ~{CK}, K9 ODT   (in), L1 BA2   (in), L2 BA0   (in), L3 BA1   (in), L7 ~{CAS} (in), L8 ~{CS} (in), M2 A10   (in), M3 A1    (in), M7 A2    (in), M8 A0    (in), M9 VDD (power), N1 GND (power), N2 A3    (in), N3 A5    (in), N7 A6    (in), N8 A4    (in), P2 A7    (in), P3 A9    (in), P7 A11   (in), P8 A8    (in), P9 GND (power), R1 VDD (power), R2 A12   (in)
text: DDR2

## NCV4274AST33T3G
designator DA?  (value not drawn)
3.3V, LDO Regulator, 400 mA, 2% and 4% Voltage; Value: *
footprint SOT-223 PWR
pins: 1 IN, 2 G, 3 OUT

## OKI-78SR
designator DA?, comment OKI-78SR-5/1.5-W36H-C
Fixed Output 1.5 Amp SIP DC/DC Converter
footprint OKI-78SR-H
pins: 1 Vin, 2, 3 Vout
text: GND

## PGA112AIDGS
designator DD?
footprint MSOP10 (MO-187-BA)
pins: 1 AVDD (in), 2 CH1 (in), 3 CH0 (in), 4 VREF (out), 5 VOUT (power), 6 GND (power), 7 SCLK (power), 8 SDIO (power), 9 ~{CS} (power), 10 DVDD (power)

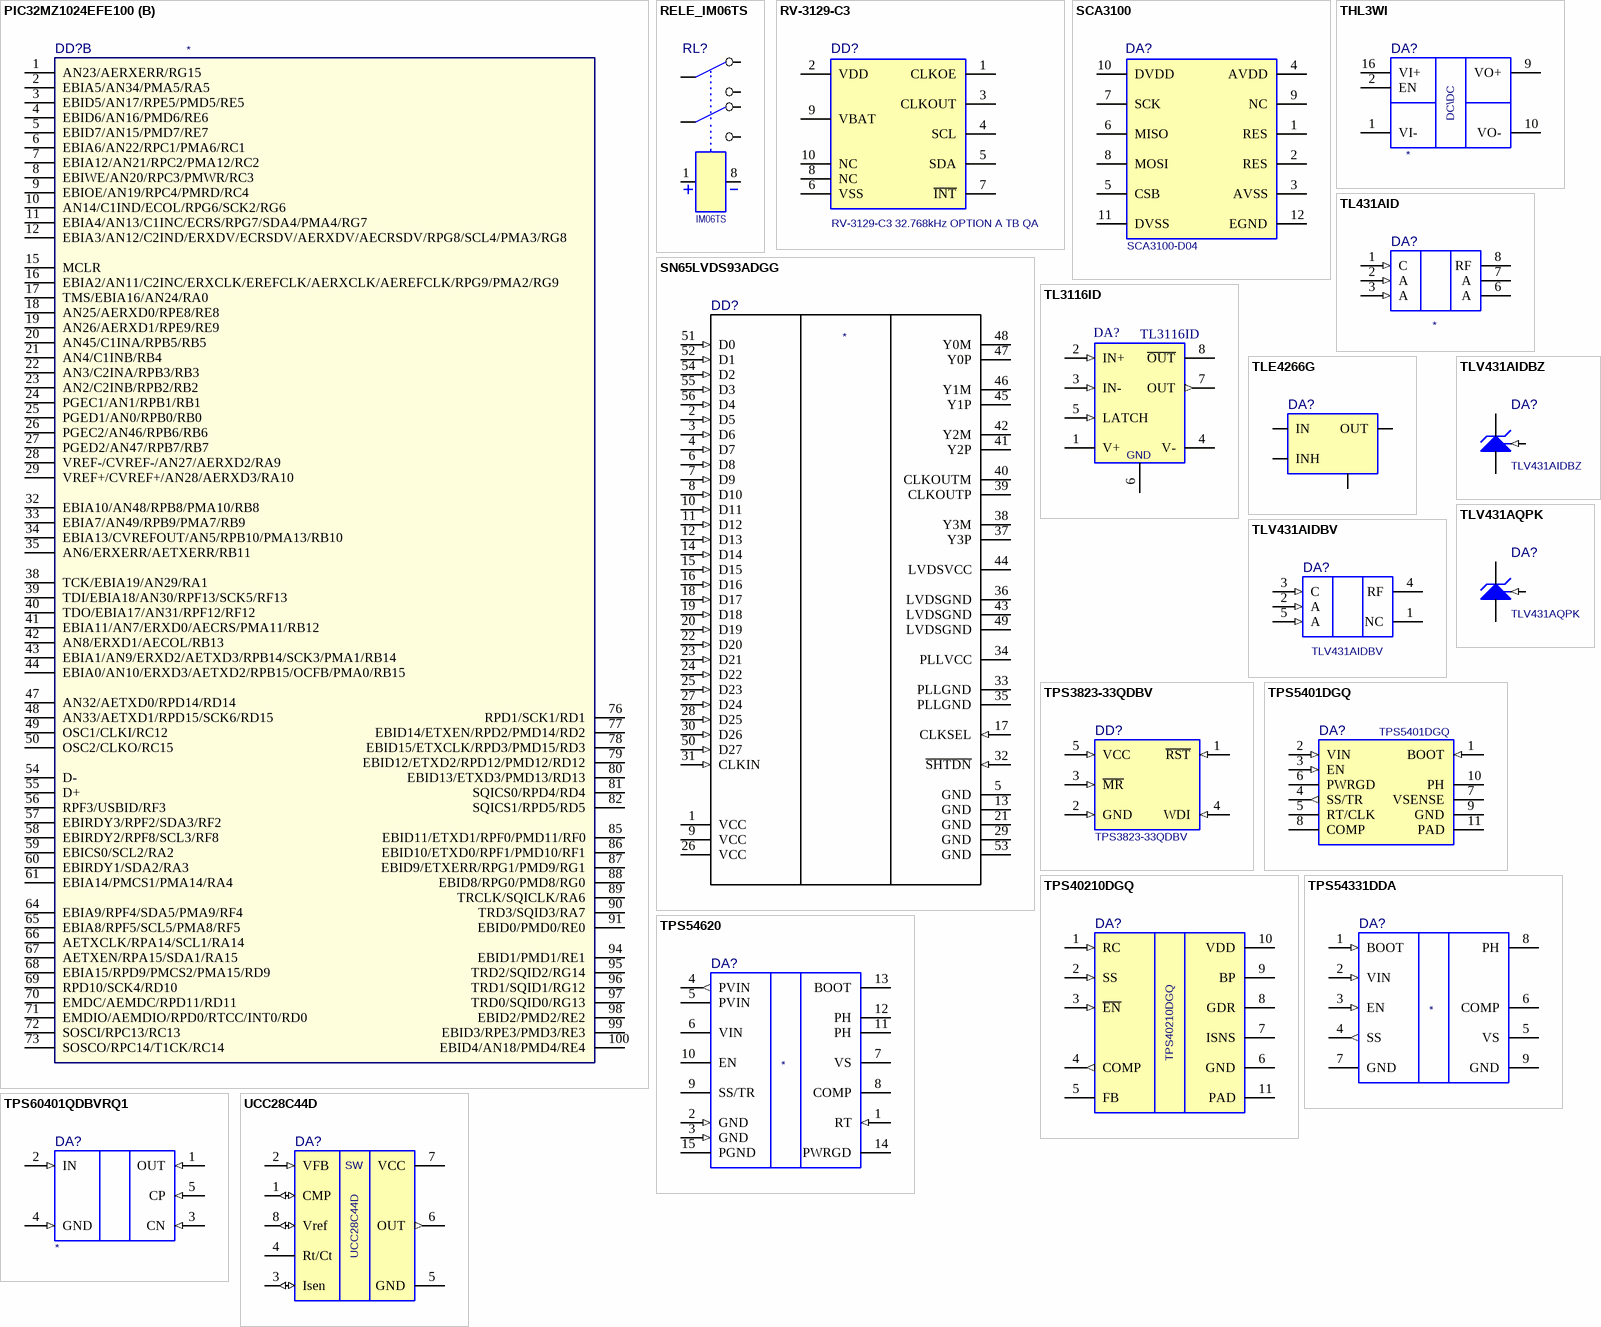
[diagram p3: symbols PIC32MZ1024EFE100 to UCC28C44D]

## PIC32MZ1024EFE100
designator DD?
footprint LQFP100_MS-026
part A pins: 13 VSS (power), 14 VDD (power), 30 AVDD (power), 31 AVSS (power), 36 VSS (power), 37 VDD (power), 45 VSS (power), 46 VDD (power), 51 VBUS (power), 52 VUSB3V3 (power), 53 VSS (power), 62 VDD (power), 63 VSS (power), 74 VDD (power), 75 VSS (power), 83 VDD (power), 84 VSS (power), 92 VSS (power), 93 VDD (power)
part B pins: 1 AN23/AERXERR/RG15 (power), 2 EBIA5/AN34/PMA5/RA5 (power), 3 EBID5/AN17/RPE5/PMD5/RE5 (power), 4 EBID6/AN16/PMD6/RE6 (power), 5 EBID7/AN15/PMD7/RE7 (power), 6 EBIA6/AN22/RPC1/PMA6/RC1 (power), 7 EBIA12/AN21/RPC2/PMA12/RC2 (power), 8 EBIWE/AN20/RPC3/PMWR/RC3 (power), 9 EBIOE/AN19/RPC4/PMRD/RC4 (power), 10 AN14/C1IND/ECOL/RPG6/SCK2/RG6 (power), 11 EBIA4/AN13/C1INC/ECRS/RPG7/SDA4/PMA4/RG7 (power), 12 EBIA3/AN12/C2IND/ERXDV/ECRSDV/AERXDV/AECRSDV/RPG8/SCL4/PMA3/RG8 (power), 15 MCLR (power), 16 EBIA2/AN11/C2INC/ERXCLK/EREFCLK/AERXCLK/AEREFCLK/RPG9/PMA2/RG9 (power), 17 TMS/EBIA16/AN24/RA0 (power), 18 AN25/AERXD0/RPE8/RE8 (power), 19 AN26/AERXD1/RPE9/RE9 (power), 20 AN45/C1INA/RPB5/RB5 (power), 21 AN4/C1INB/RB4 (power), 22 AN3/C2INA/RPB3/RB3 (power), 23 AN2/C2INB/RPB2/RB2 (power), 24 PGEC1/AN1/RPB1/RB1 (power), 25 PGED1/AN0/RPB0/RB0 (power), 26 PGEC2/AN46/RPB6/RB6 (power), 27 PGED2/AN47/RPB7/RB7 (power), 28 VREF-/CVREF-/AN27/AERXD2/RA9 (power), 29 VREF+/CVREF+/AN28/AERXD3/RA10 (power), 32 EBIA10/AN48/RPB8/PMA10/RB8 (power), 33 EBIA7/AN49/RPB9/PMA7/RB9 (power), 34 EBIA13/CVREFOUT/AN5/RPB10/PMA13/RB10 (power), 35 AN6/ERXERR/AETXERR/RB11 (power), 38 TCK/EBIA19/AN29/RA1 (power), 39 TDI/EBIA18/AN30/RPF13/SCK5/RF13 (power), 40 TDO/EBIA17/AN31/RPF12/RF12 (power), 41 EBIA11/AN7/ERXD0/AECRS/PMA11/RB12 (power), 42 AN8/ERXD1/AECOL/RB13 (power), 43 EBIA1/AN9/ERXD2/AETXD3/RPB14/SCK3/PMA1/RB14 (power), 44 EBIA0/AN10/ERXD3/AETXD2/RPB15/OCFB/PMA0/RB15 (power), 47 AN32/AETXD0/RPD14/RD14 (power), 48 AN33/AETXD1/RPD15/SCK6/RD15 (power), 49 OSC1/CLKI/RC12 (power), 50 OSC2/CLKO/RC15 (power), 54 D- (power), 55 D+ (power), 56 RPF3/USBID/RF3 (power), 57 EBIRDY3/RPF2/SDA3/RF2 (power), 58 EBIRDY2/RPF8/SCL3/RF8 (power), 59 EBICS0/SCL2/RA2 (power), 60 EBIRDY1/SDA2/RA3 (power), 61 EBIA14/PMCS1/PMA14/RA4 (power), 64 EBIA9/RPF4/SDA5/PMA9/RF4 (power), 65 EBIA8/RPF5/SCL5/PMA8/RF5 (power), 66 AETXCLK/RPA14/SCL1/RA14 (power), 67 AETXEN/RPA15/SDA1/RA15 (power), 68 EBIA15/RPD9/PMCS2/PMA15/RD9 (power), 69 RPD10/SCK4/RD10 (power), 70 EMDC/AEMDC/RPD11/RD11 (power), 71 EMDIO/AEMDIO/RPD0/RTCC/INT0/RD0 (power), 72 SOSCI/RPC13/RC13 (power), 73 SOSCO/RPC14/T1CK/RC14 (power), 76 RPD1/SCK1/RD1 (power), 77 EBID14/ETXEN/RPD2/PMD14/RD2 (power), 78 EBID15/ETXCLK/RPD3/PMD15/RD3 (power), 79 EBID12/ETXD2/RPD12/PMD12/RD12 (power), 80 EBID13/ETXD3/PMD13/RD13 (power), 81 SQICS0/RPD4/RD4 (power), 82 SQICS1/RPD5/RD5 (power), 85 EBID11/ETXD1/RPF0/PMD11/RF0 (power), 86 EBID10/ETXD0/RPF1/PMD10/RF1 (power), 87 EBID9/ETXERR/RPG1/PMD9/RG1 (power), 88 EBID8/RPG0/PMD8/RG0 (power), 89 TRCLK/SQICLK/RA6 (power), 90 TRD3/SQID3/RA7 (power), 91 EBID0/PMD0/RE0 (power), 94 EBID1/PMD1/RE1 (power), 95 TRD2/SQID2/RG14 (power), 96 TRD1/SQID1/RG12 (power), 97 TRD0/SQID0/RG13 (power), 98 EBID2/PMD2/RE2 (power), 99 EBID3/RPE3/PMD3/RE3 (power), 100 EBID4/AN18/PMD4/RE4 (power)

## RELE_IM06TS
designator RL?, comment IM06TS
footprint IM06TS
pins: 1, 2, 3, 4, 5, 6, 7, 8

## RV-3129-C3
designator DD?, comment RV-3129-C3 32.768kHz OPTION A TB QA
Real-Time Clock Module with I2C-Bus; Part Field 1: *; Part Field 2: *
footprint RV-3129-C3
pins: 1 CLKOE, 2 VDD, 3 CLKOUT, 4 SCL, 5 SDA, 6 VSS, 7 ~{INT}, 8 NC, 9 VBAT, 10 NC

## SCA3100
designator DA?, comment SCA3100-D04
3-AXIS HIGH PERFORMANCE ACCELEROMETER; Part Field 1: *; Part Field 2: *
footprint SCA3100
pins: 1 RES, 2 RES, 3 AVSS, 4 AVDD, 5 CSB, 6 MISO, 7 SCK, 8 MOSI, 9 NC, 10 DVDD, 11 DVSS, 12 EGND

## SN65LVDS93ADGG
designator DD?
FLATLINK™ TRANSMITTER, LVDS Display Serdes Interfaces Directly to LCD Display Panels with Integrated LVDS
footprint TSSOP56 (JEDEC MO-153)
signal-integrity model Model Name (Model Description)
pins: 1 VCC (power), 2 D5 (in), 3 D6 (in), 4 D7 (in), 5 GND (power), 6 D8 (in), 7 D9 (in), 8 D10 (in), 9 VCC (power), 10 D11 (in), 11 D12 (in), 12 D13 (in), 13 GND (power), 14 D14 (in), 15 D15 (in), 16 D16 (in), 17 CLKSEL (in), 18 D17 (in), 19 D18 (in), 20 D19 (in), 21 GND (power), 22 D20 (in), 23 D21 (in), 24 D22 (in), 25 D23 (in), 26 VCC (power), 27 D24 (in), 28 D25 (in), 29 GND (power), 30 D26 (in), 31 CLKIN (in), 32 ~{SHTDN} (in), 33 PLLGND (power), 34 PLLVCC (power), 35 PLLGND (power), 36 LVDSGND (power), 37 Y3P (hiz), 38 Y3M (hiz), 39 CLKOUTP (hiz), 40 CLKOUTM (hiz), 41 Y2P (hiz), 42 Y2M (hiz), 43 LVDSGND (power), 44 LVDSVCC (power), 45 Y1P (hiz), 46 Y1M (hiz), 47 Y0P (hiz), 48 Y0M (hiz), 49 LVDSGND (power), 50 D27 (in), 51 D0 (in), 52 D1 (in), 53 GND (power), 54 D2 (in), 55 D3 (in), 56 D4 (in)

## THL3WI
designator DA?
footprint DC-DC-DIP-16
pins: 1 VI-, 2 EN, 9 VO+, 10 VO-, 16 VI+
text: DC\DC

## TL431AID
designator DA?
Precision Programmable Reference
footprint SOIC8 JEDEC
pins: 1 C (in), 2 A (in), 3 A (in), 6 A (power), 7 A (power), 8 RF (power)

## TL3116ID
designator DA?
High-speed, Low-power Voltage Comparator
footprint SOIC8 JEDEC
pins: 1 V+ (power), 2 IN+ (in), 3 IN- (in), 4 V- (power), 5 LATCH (in), 6 GND (power), 7 OUT (out), 8 ~{OUT} (power)

## TLE4266G
designator DA?, comment TLE4266GS V10  (value not drawn)
5V/120mA low drop voltage regulator; Value: *
footprint SOT-223
pins: 1 IN, 2 INH, 3 OUT, 4 GND

## TLV431AIDBV
designator DA?
Precision Programmable Reference
footprint SOT23-5
pins: 1 NC (power), 2 A (in), 3 C (in), 4 RF (power), 5 A (in)

## TLV431AIDBZ
designator DA?
Precision Programmable Reference
footprint SOT-23
pins: 1 REF (in), 2 CATHODE, 3 ANODE

## TLV431AQPK
designator DA?
Precision Programmable Reference
footprint SOT-89
pins: 1 REF (in), 2 ANODE, 3 CATHODE

## TPS3823-33QDBV
designator DD?
Voltage Monitor With Watchdog Timer
footprint SOT23-5
pins: 1 ~{RST} (in), 2 GND (in), 3 ~{MR} (in), 4 WDI (in), 5 VCC (in)

## TPS5401DGQ
designator DA?
0.5-A, 42-V Input, Step-Down Converter, Thermal shutdown 182°C
footprint MSOP10 POWERPAD (MO-187-BA)
pins: 1 BOOT (in), 2 VIN (in), 3 EN (in), 4 SS/TR (out), 5 RT/CLK (power), 6 PWRGD (power), 7 VSENSE (power), 8 COMP (power), 9 GND (power), 10 PH (power), 11 PAD (power)

## TPS40210DGQ
designator DA?
4.5-V TO 52-V INPUT CURRENT MODE BOOST CONTROLLER
footprint MSOP10 POWERPAD (MO-187-BA)
pins: 1 RC (in), 2 SS (in), 3 ~{EN} (in), 4 COMP (out), 5 FB (power), 6 GND (power), 7 ISNS (power), 8 GDR (power), 9 BP (power), 10 VDD (power), 11 PAD (power)

## TPS54331DDA
designator DA?
3A, 28V INPUT, STEP DOWN SWIFT™ DC/DC CONVERTER WITH ECO-MODE™, Thermal shutdown 165°C
footprint SOIC8 PowerPAD™
pins: 1 BOOT (in), 2 VIN (in), 3 EN (in), 4 SS (out), 5 VS (power), 6 COMP (power), 7 GND (power), 8 PH (power), 9 GND (power)

## TPS54620
designator DA?
4.5V to 17V Input, 6A Synchronous Step Down SWIFT™ Converter, Thermal shutdown 160°C
footprint vqfn-14
pins: 1 RT (in), 2 GND (in), 3 GND (in), 4 PVIN (out), 5 PVIN (power), 6 VIN (power), 7 VS (power), 8 COMP (power), 9 SS/TR (power), 10 EN (power), 11 PH (power), 12 PH (power), 13 BOOT (power), 14 PWRGD (power), 15 PGND (power)

## TPS60401QDBVRQ1
designator DA?
Unregulated 60-mA charge pump voltage inverter
footprint SOT23-5
pins: 1 OUT (in), 2 IN (in), 3 CN (in), 4 GND (in), 5 CP (in)

## UCC28C44D
designator DA?
BiCMOS LOW-POWER CURRENT-MODE PWM CONTROLLER
footprint SOIC8 JEDEC
pins: 1 CMP (io), 2 VFB (in), 3 Isen (io), 4 Rt/Ct, 5 GND (power), 6 OUT (out), 7 VCC (power), 8 Vref (io)
text: SW